# Altium schematic symbol library ICs-Sensors.SchLib: 7 symbols
Pins are listed as number, name and electrical type; pins without a type are passive.

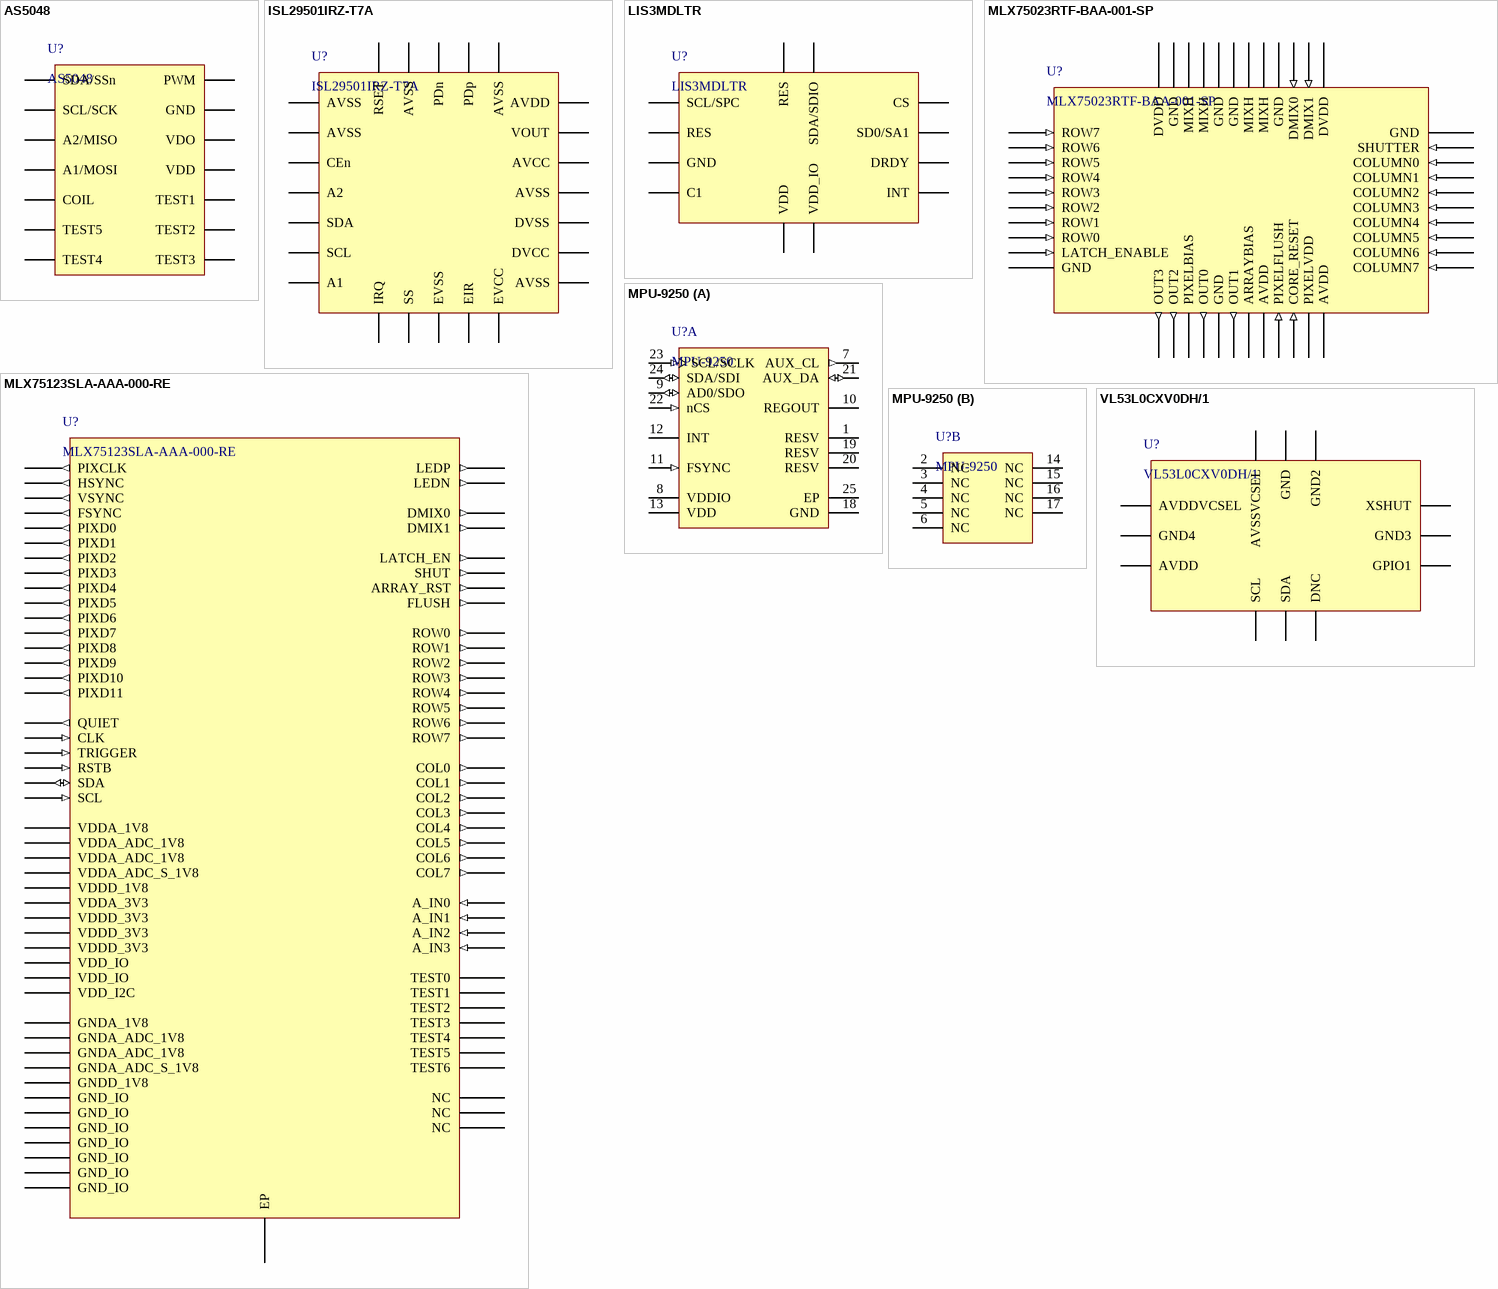
[diagram p0: symbols AS5048 to VL53L0CXV0DH/1]

## AS5048
designator U?
14-bit rotary position sensor with digital angle (interface) and PWM output; Manufacturer: AMS; PartNumber: AS5048; Mounting Technology: Surface Mount; PackageReference: TSSOP-14
footprint TSSOP-14
pins: 1 SDA/SSn, 2 SCL/SCK, 3 A2/MISO, 4 A1/MOSI, 5 COIL, 6 TEST5, 7 TEST4, 8 TEST3, 9 TEST2, 10 TEST1, 11 VDD, 12 VDO, 13 GND, 14 PWM

## ISL29501IRZ-T7A
designator U?
IC TOF SIGNAL PROCESSOR 24QFN; Manufacturer: Intersil; PartNumber: ISL29501IRZ-T7A; Mounting Technology: Surface Mount; PackageReference: QFN-24
footprint QFN-24 (QFN, 24-Leads, Body 4.00x4.00mm, Pitch 0.50mm, Thermal Pad 2.60x3.60mm, IPC Medium Density); pin to pad 23>23+25
pins: 1 AVSS, 2 AVSS, 3 CEn, 4 A2 (power), 5 SDA, 6 SCL, 7 A1, 8 IRQ, 9 SS, 10 EVSS, 11 EIR, 12 EVCC, 13 AVSS, 14 DVCC, 15 DVSS, 16 AVSS, 17 AVCC, 18 VOUT, 19 AVDD, 20 AVSS, 21 PDp, 22 PDn, 23 AVSS, 24 RSET

## LIS3MDLTR
designator U?
Board Mount Hall Effect / Magnetic Sensors Ultra Lo-Pwr Hi Perf 3-Axis 1.9-3.6V; Manufacturer: STMicroelectronics; PartNumber: LIS3MDLTR; Mounting Technology: Surface Mount; PackageReference: LGA-12
footprint LGA-12 (2x2MM) (LGA, 12-Leads, Body 2.00x2.00mmx1.00mm, Pitch 0.50mm)
pins: 1 SCL/SPC, 2 RES, 3 GND, 4 C1, 5 VDD, 6 VDD_IO, 7 INT, 8 DRDY, 9 SD0/SA1, 10 CS, 11 SDA/SDIO, 12 RES

## MLX75023RTF-BAA-001-SP
designator U?
Manufacturer: Melexis; PartNumber: MLX75023RTF-BAA-001-SP; Mounting Technology: Surface Mount; PackageReference: BGA-44
footprint BGA-44 (BGA, 44-Leads, Body 6.61x5.48mmx0.50mm, Pitch 0.48mm)
pins: 1 ROW7 (in), 2 ROW6 (in), 3 ROW5 (in), 4 ROW4 (in), 5 ROW3 (in), 6 ROW2 (in), 7 ROW1 (in), 8 ROW0 (in), 9 LATCH_ENABLE (in), 10 GND (power), 11 OUT3 (out), 12 OUT2 (out), 13 PIXELBIAS, 14 OUT0 (out), 15 GND (power), 16 OUT1 (out), 17 ARRAYBIAS, 18 AVDD (power), 19 PIXELFLUSH (in), 20 CORE_RESET (in), 21 PIXELVDD (power), 22 AVDD (power), 23 COLUMN7 (in), 24 COLUMN6 (in), 25 COLUMN5 (in), 26 COLUMN4 (in), 27 COLUMN3 (in), 28 COLUMN2 (in), 29 COLUMN1 (in), 30 COLUMN0 (in), 31 SHUTTER (in), 32 GND (power), 33 DVDD (power), 34 DMIX1 (in), 35 DMIX0 (in), 36 GND (power), 37 MIXH (power), 38 MIXH (power), 39 GND (power), 40 GND (power), 41 MIXH (power), 42 MIXH (power), 43 GND (power), 44 DVDD (power)

## MLX75123SLA-AAA-000-RE
designator U?
Sensor Interface ToF Companion Chip; Manufacturer: Melexis; PackageReference: AQFN-84; Mounting Technology: Surface Mount; PartNumber: MLX75123SLA-AAA-000-RE
footprint AQFN-84 (Double Row QFN, 84-Leads, Body 7.00x7.00mm, Pitch 0.50mm, Thermal Pad 3.60x3.60mm, IPC High Density)
pins: A1 ROW5 (out), A2 ROW7 (out), A3 ARRAY_RST (out), A4 LATCH_EN (out), A5 GNDA_ADC_1V8 (power), A6 A_IN1 (in), A7 A_IN2 (in), A8 GND_IO (power), A9 VDDA_ADC_1V8 (power), A10 VDDA_ADC_S_1V8 (power), A11 TEST5, A12 SCL (in), A13 TRIGGER (in), A14 RSTB (in), A15 QUIET (out), A16 GNDA_1V8 (power), A16 TEST4, A17 TEST3, A18 GND_IO (power), A19 NC, A20 NC, A21 TEST0, A22 GNDD_1V8 (power), A23 NC, A24 GND_IO (power), A25 PIXD10 (out), A26 PIXD8 (out), A27 PIXD6 (out), A28 PIXD4 (out), A29 PIXD2 (out), A30 PIXD0 (out), A31 FSYNC (out), A32 VSYNC (out), A33 GND_IO (power), A34 LEDN (out), A35 DMIX0 (out), A36 VDDD_3V3 (power), A37 COL7 (out), A38 COL5 (out), A39 COL3 (out), A40 COL1 (out), A41 GND_IO (power), A42 ROW0 (out), A43 ROW2 (out), A44 ROW4 (out), B1 ROW6 (out), B2 SHUT (out), B3 FLUSH (out), B4 VDDA_3V3 (power), B5 VDDA_ADC_1V8 (power), B6 A_IN0 (in), B7 A_IN3 (in), B8 GNDA_ADC_1V8 (power), B9 GNDA_ADC_S_1V8 (power), B10 TEST6, B11 SDA (io), B12 VDD_I2C (power), B13 CLK (in), B14 VDDA_1V8 (power), B15 GND_IO (power), B17 VDDD_3V3 (power), B18 TEST2, B19 TEST1, B20 VDDD_1V8 (power), B21 VDD_IO (power), B22 PIXD11 (out), B23 PIXD9 (out), B24 PIXD7 (out), B25 PIXD5 (out), B26 PIXD3 (out), B27 PIXD1 (out), B28 PIXCLK (out), B29 HSYNC (out), B30 VDD_IO (power), B31 LEDP (out), B32 DMIX1 (out), B33 GND_IO (power), B34 COL6 (out), B35 COL4 (out), B36 COL2 (out), B37 COL0 (out), B38 VDDD_3V3 (power), B39 ROW1 (out), B40 ROW3 (out), EP

## MPU-9250
designator U?
Manufacturer: Invensense; PartNumber: MPU-9250; Mounting Technology: Surface Mount; PackageReference: QFN-24
footprint QFN-24 (6mil) (6mil, Thermal Pad 1.54x1.70mm, IPC High Density)
part A pins: 1 RESV (power) "Reserved. Connect to VDDIO", 7 AUX_CL (out) "I2C Master serial clock, for connecting to external sensors", 8 VDDIO (power) "Digital I/O supply voltage", 9 AD0/SDO (io) "I2C Slave Address LSB (AD0); SPI serial data output (SDO)", 10 REGOUT "Regulator filter capacitor connection", 11 FSYNC (in) "Frame synchronization digital input. Connect to GND if unused", 12 INT (hiz) "Interrupt digital output (totem pole or open-drain)", 13 VDD (power) "Power supply voltage and Digital I/O supply voltage", 18 GND (power) "Pow er supply ground", 19 RESV "Reserved. Do not connect", 20 RESV (power) "Reserved. Connect to GND", 21 AUX_DA (io) "I2C master serial data, for connecting to external sensors", 22 nCS (in) "Chip select (SPI mode only)", 23 SCL/SCLK (in) "I2C serial clock (SCL); SPI serial clock (SCLK)", 24 SDA/SDI (io) "I2C serial data (SDA); SPI serial data input (SDI)", 25 EP
part B pins: 2 NC "Not internally connected. May be used for PCB trace routing", 3 NC "Not internally connected. May be used for PCB trace routing", 4 NC "Not internally connected. May be used for PCB trace routing", 5 NC "Not internally connected. May be used for PCB trace routing", 6 NC "Not internally connected. May be used for PCB trace routing", 14 NC "Not internally connected. May be used for PCB trace routing", 15 NC "Not internally connected. May be used for PCB trace routing", 16 NC "Not internally connected. May be used for PCB trace routing", 17 NC "Not internally connected. May be used for PCB trace routing"

## VL53L0CXV0DH/1
designator U?
Optical Sensor Modules Time-of-Flight (ToF) ranging sensor; Manufacturer: STMicroelectronics; PartNumber: VL53L0CXV0DH/1; Mounting Technology: Surface Mount; PackageReference: LGA-12
footprint LGA-12 (LGA, 12-Leads, Body 4.40x2.40mmx1.05mm, Pitch 0.80mm)
pins: 1 AVDDVCSEL, 2 AVSSVCSEL, 3 GND, 4 GND2, 5 XSHUT, 6 GND3, 7 GPIO1, 8 DNC, 9 SDA, 10 SCL, 11 AVDD, 12 GND4